# EAGLE library part KD026LQTMA008 (library RetroESP32)
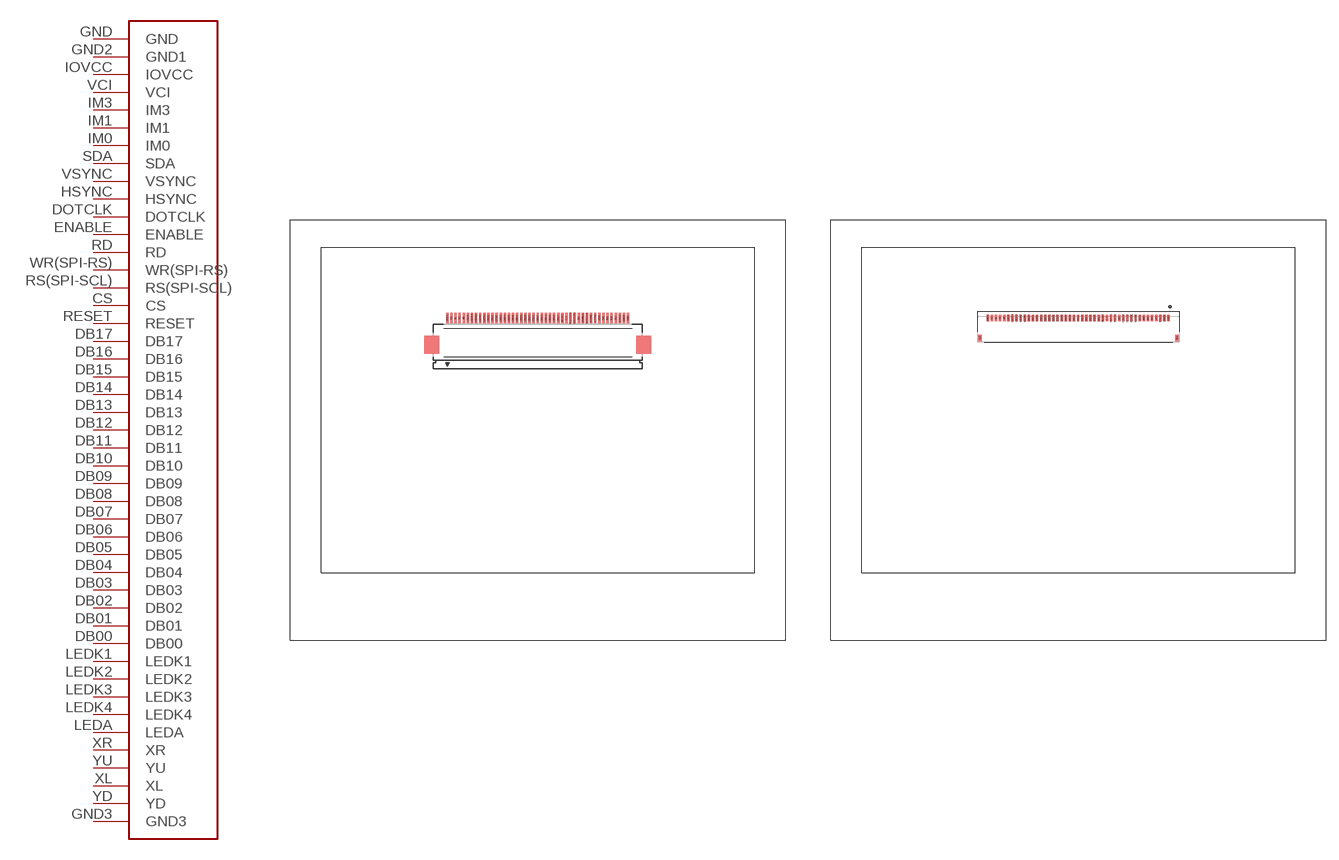
[diagram p0: symbol with the pads of KD026LQTMA008; footprints KD026LQTMA008, KD026LQTMA008-FH34SRJ]

Designator prefix -

## KD026LQTMA008  [KD026LQTMA008]
CS  CS
DB00  DB00
DB01  DB01
DB02  DB02
DB03  DB03
DB04  DB04
DB05  DB05
DB06  DB06
DB07  DB07
DB08  DB08
DB09  DB09
DB10  DB10
DB11  DB11
DB12  DB12
DB13  DB13
DB14  DB14
DB15  DB15
DB16  DB16
DB17  DB17
DOTCLK  DOTCLK
ENABLE  ENABLE
GND  GND
GND2  GND1
GND3  GND3
HSYNC  HSYNC
IM0  IM0
IM1  IM1
IM3  IM3
IOVCC  IOVCC
LEDA  LEDA
LEDK1  LEDK1
LEDK2  LEDK2
LEDK3  LEDK3
LEDK4  LEDK4
RD  RD
RESET  RESET
RS(SPI-SCL)  RS(SPI-SCL)
SDA  SDA
VCI  VCI
VSYNC  VSYNC
WR(SPI-RS)  WR(SPI-RS)
XL  XL
XR  XR
YD  YD
YU  YU

## KD026LQTMA008KD026LQTMA008-FH34SRJ  [KD026LQTMA008-FH34SRJ]
Pads as for KD026LQTMA008

## Footprint KD026LQTMA008 (pad centres in mm)
smd 0.3 x 1.3: CS 3.47,13.61; DB00 -6.03,13.61; DB01 -5.53,13.61; DB02 -5.03,13.61; DB03 -4.53,13.61; DB04 -4.03,13.61; DB05 -3.53,13.61; DB06 -3.03,13.61; DB07 -2.53,13.61; DB08 -2.03,13.61; DB09 -1.53,13.61; DB10 -1.03,13.61; DB11 -0.53,13.61; DB12 -0.03,13.61; DB13 0.47,13.61; DB14 0.97,13.61; DB15 1.47,13.61; DB16 1.97,13.61; DB17 2.47,13.61; DOTCLK 5.97,13.61; ENABLE 5.47,13.61; GND 10.97,13.61; GND2 10.47,13.61; GND3 -11.03,13.61; HSYNC 6.47,13.61; IM0 7.97,13.61; IM1 8.47,13.61; IM3 8.97,13.61; IOVCC 9.97,13.61; LEDA -8.53,13.61; LEDK1 -6.53,13.61; LEDK2 -7.03,13.61; LEDK3 -7.53,13.61; LEDK4 -8.03,13.61; RD 4.97,13.61; RESET 2.97,13.61; RS(SPI-SCL) 3.97,13.61; SDA 7.47,13.61; VCI 9.47,13.61; VSYNC 6.97,13.61; WR(SPI-RS) 4.47,13.61; XL -10.03,13.61; XR -9.03,13.61; YD -10.53,13.61; YU -9.53,13.61

## Footprint KD026LQTMA008-FH34SRJ (pad centres in mm)
smd 0.3 x 0.8: CS 3.47,13.61; DB00 -6.03,13.61; DB01 -5.53,13.61; DB02 -5.03,13.61; DB03 -4.53,13.61; DB04 -4.03,13.61; DB05 -3.53,13.61; DB06 -3.03,13.61; DB07 -2.53,13.61; DB08 -2.03,13.61; DB09 -1.53,13.61; DB10 -1.03,13.61; DB11 -0.53,13.61; DB12 -0.03,13.61; DB13 0.47,13.61; DB14 0.97,13.61; DB15 1.47,13.61; DB16 1.97,13.61; DB17 2.47,13.61; DOTCLK 5.97,13.61; ENABLE 5.47,13.61; GND 10.97,13.61; GND2 10.47,13.61; GND3 -11.03,13.61; HSYNC 6.47,13.61; IM0 7.97,13.61; IM1 8.47,13.61; IM3 8.97,13.61; IOVCC 9.97,13.61; LEDA -8.53,13.61; LEDK1 -6.53,13.61; LEDK2 -7.03,13.61; LEDK3 -7.53,13.61; LEDK4 -8.03,13.61; RD 4.97,13.61; RESET 2.97,13.61; RS(SPI-SCL) 3.97,13.61; SDA 7.47,13.61; VCI 9.47,13.61; VSYNC 6.97,13.61; WR(SPI-RS) 4.47,13.61; XL -10.03,13.61; XR -9.03,13.61; YD -10.53,13.61; YU -9.53,13.61
smd 0.4 x 0.8: S1 12,11.2; S2 -12,11.2